# Altium footprint library 6002-3-0004 Rev01.PcbLib: 28 footprints (part 1 of 2)
Each footprint in its own frame and in the unit in brackets; x right, y up, seen from the top. Pads: shape width x height; smd on the part's side, far side on the other; paste and mask are expansions set on the pad; w line width, h text height; cw(c..) or ccw(c..) is an arc to the next point about the centre after c.
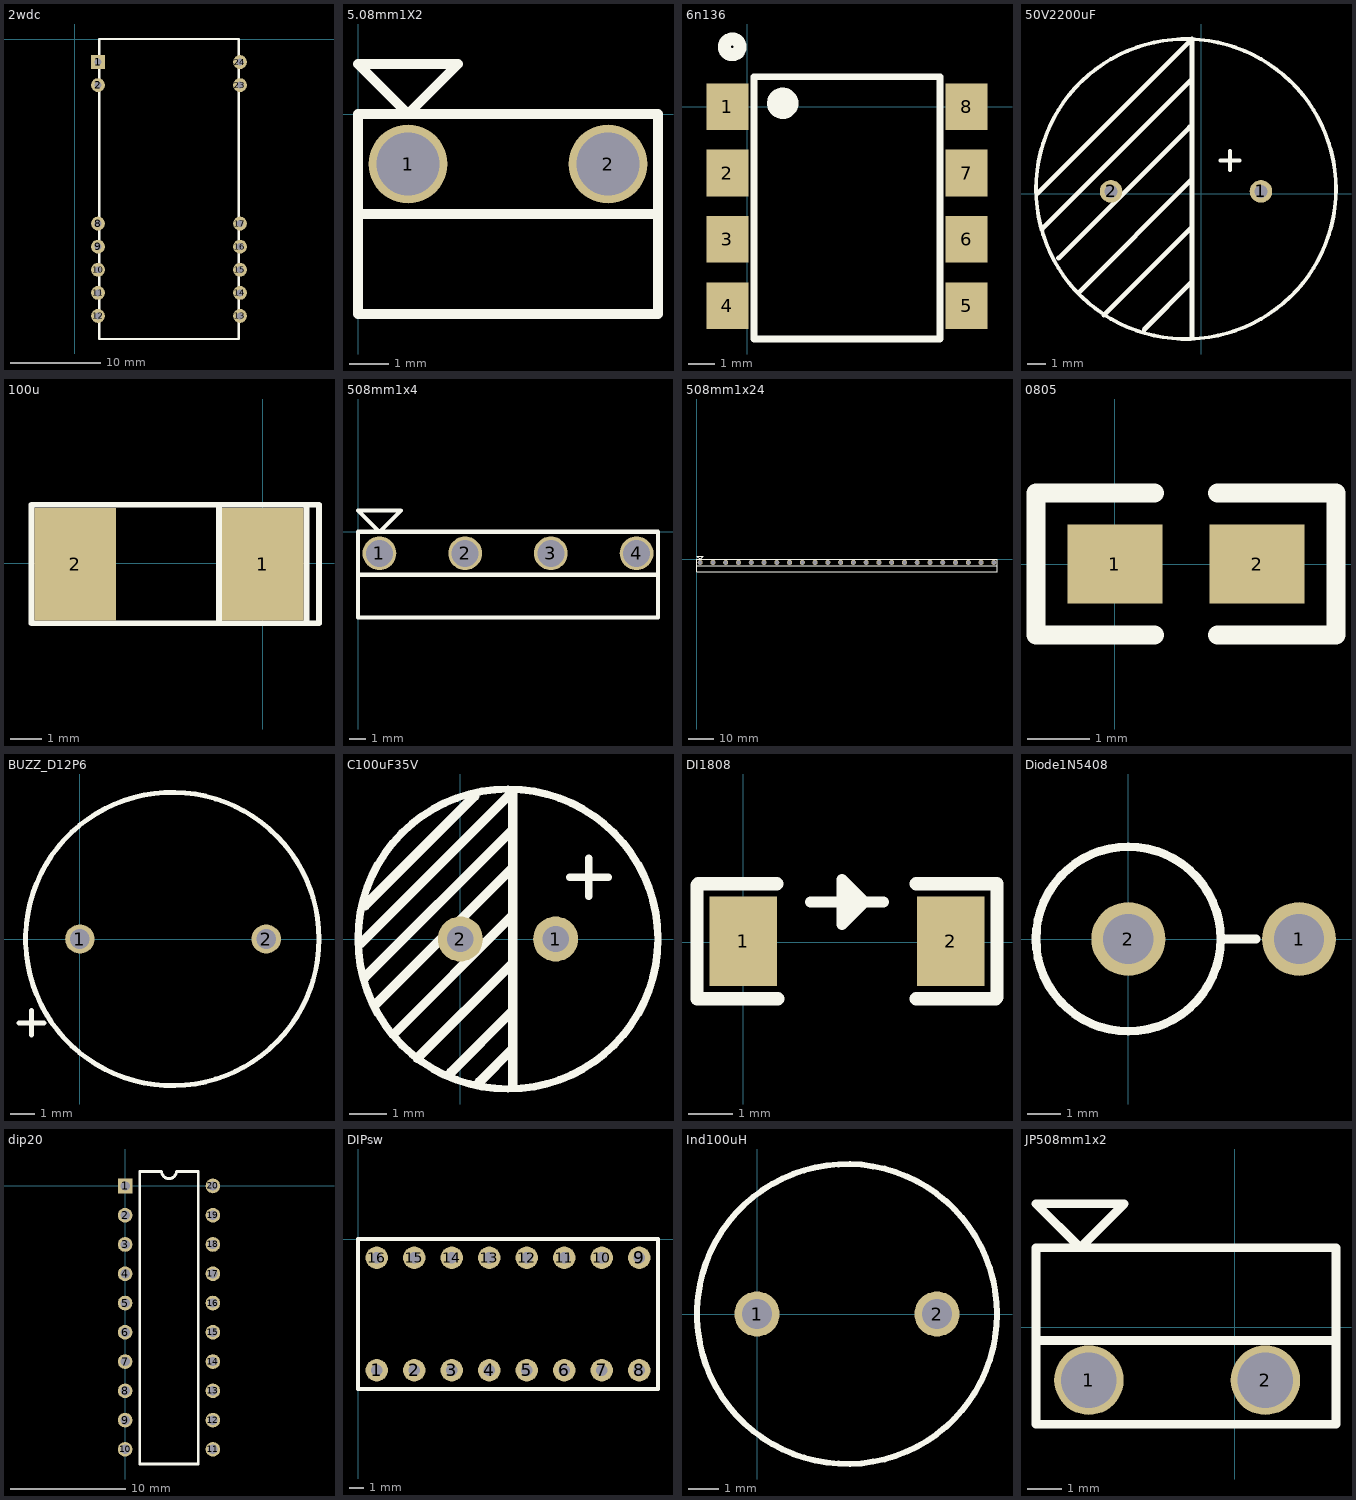
[diagram p0: the footprints below, top view; thin cyan lines are the x and y axes]

## 2wdc [mil]
pads (14):
  rect 60x60 hole 30: 1(100,-100)
  round 60 hole 30: 2(100,-200) 8(100,-800) 9(100,-900) 10(100,-1000) 11(100,-1100) 12(100,-1200) 13(715,-1200) 14(715,-1100) 15(715,-1000) 16(715,-900) 17(715,-800) 23(715,-200) 24(715,-100)
Top Overlay:
  lines w10: 105,-1300 105,0 710,0 710,-1300 105,-1300

## 5.08mm1X2 [mm]
pads (2):
  round 2 hole 1.6: 1(1.27,-1.27) 2(6.35,-1.27)
Top Overlay:
  lines w0.254: 0,-2.54 7.62,-2.54 ; 0,-5.08 7.62,-5.08 7.62,0 0,0 0,-5.08 ; 0,1.27 1.27,0 2.54,1.27 0,1.27

## 6n136 [mm]
pads (8):
  rect 1.6x1.78 smd: 1(-0.762,0) 2(-0.762,-2.54) 3(-0.762,-5.08) 4(-0.762,-7.62) 5(8.382,-7.62) 6(8.382,-5.08) 7(8.382,-2.54) 8(8.382,0)
Top Overlay:
  circle w0.5: c-0.581,2.286 r0.3
  circle w0.6: c1.351,0.127 r0.3
  lines w0.254: 0.254,-8.89 0.254,1.143 7.366,1.143 7.366,-8.89 0.254,-8.89

## 50V2200uF [mm]
pads (2):
  round 1.2 hole 0.7: 1(3.175,0.127) 2(-4.825,0.127)
Top Overlay:
  circle w0.2: c-0.825,0.254 r8
  lines w0.2: 1.016,1.778 2.032,1.778 ; 1.524,1.27 1.524,2.286
  lines w0.254: -8.763,0 -0.635,8.128 ; -8.509,-1.905 -0.508,6.096 ; -7.62,-3.429 -0.635,3.556 ; -6.477,-5.207 -0.508,0.762 ; -5.207,-6.477 -0.508,-1.778 ; -3.048,-7.239 -0.508,-4.699 ; -0.508,-7.62 -0.508,8.255

## 100u [mm]
pads (2):
  rect 2.6x3.6 smd: 1(-0.001,-0.02) 2(-6.001,-0.02)
Top Overlay:
  lines w0.178: -1.401,-1.92 -1.401,1.88 ; 1.399,-1.92 1.799,-1.92 1.799,1.88 1.399,1.88 ; 1.399,-1.92 1.399,1.88 ; 1.399,-1.92 -7.401,-1.92 -7.401,1.88 1.399,1.88

## 508mm1x4 [mm]
pads (4):
  round 2 hole 1.6: 1(1.27,-1.27) 2(6.35,-1.27) 3(11.43,-1.27) 4(16.51,-1.27)
Top Overlay:
  lines w0.254: 0,-2.54 17.78,-2.54 ; 0,-5.08 0,0 17.78,0 17.78,-5.08 0,-5.08 ; 0,1.27 2.54,1.27 1.27,0 0,1.27

## 508mm1x24 [mm]
pads (24):
  round 2 hole 1.6: 1(1.27,-1.27) 2(6.35,-1.27) 3(11.43,-1.27) 4(16.51,-1.27) 5(21.59,-1.27) 6(26.67,-1.27) 7(31.75,-1.27) 8(36.83,-1.27) 9(41.91,-1.27) 10(46.99,-1.27) 11(52.07,-1.27) 12(57.15,-1.27) 13(62.23,-1.27) 14(67.31,-1.27) 15(72.39,-1.27) 16(77.47,-1.27) 17(82.55,-1.27) 18(87.63,-1.27) 19(92.71,-1.27) 20(97.79,-1.27) 21(102.87,-1.27) 22(107.95,-1.27) 23(113.03,-1.27) 24(118.11,-1.27)
Top Overlay:
  lines w0.254: 0,-2.54 20.32,-2.54 40.64,-2.54 60.96,-2.54 81.28,-2.54 101.6,-2.54 119.38,-2.54 ; 0,-5.08 20.32,-5.08 40.64,-5.08 60.96,-5.08 81.28,-5.08 101.6,-5.08 119.38,-5.08 119.38,0 101.6,0 81.28,0 60.96,0 40.64,0 20.32,0 0,0 0,-5.08 ; 0,1.27 2.54,1.27 1.27,0 0,1.27

## 0805 [mil]
pads (2):
  rect 60x50 smd: 1(0,0) 2(90,0)
Top Overlay:
  lines w12: 25,-45 -50,-45 -50,45 25,45 ; 65,-45 140,-45 140,45 65,45

## BUZZ_D12P6 [mm]
pads (2):
  round 1.2 hole 0.8: 1(0,0) 2(7.62,0)
Top Overlay:
  circle w0.2: c3.779,0 r6
  lines w0.2: -2.491,-3.429 -1.475,-3.429 ; -1.983,-3.937 -1.983,-2.921

## C100uF35V [mm]
pads (2):
  round 1.2 hole 0.7: 1(2.54,0) 2(0,0)
Top Overlay:
  circle w0.2: c1.27,0 r4
  lines w0.2: 2.921,1.651 3.937,1.651 ; 3.429,1.143 3.429,2.159
  lines w0.254: -2.667,-0.127 1.397,3.937 1.397,-3.937 ; -2.54,-1.016 1.397,2.921 ; -2.54,0.889 0.381,3.81 ; -2.286,-1.778 1.397,1.905 ; -1.778,-2.54 1.397,0.635 ; -1.143,-3.175 1.397,-0.635 ; -0.254,-3.556 1.397,-1.905 ; 0.508,-3.81 1.397,-2.921

## DI1808 [mil]
pads (2):
  rect 60x80 smd: 1(0,1) 2(185,1)
Top Overlay:
  lines w10: 60,36 125,36 ; 88,24 100,36 ; 89,46 99,36 ; 97,36 97,37 ; 88,16 108,36 88,56 88,16
  lines w12: -41,51 -41,-50 31,-50 ; -40,52 30,52 ; 154,-50 225,-50 ; 154,52 226,52 ; 226,-49 226,51

## Diode1N5408 [mm]
pads (2):
  round 2.2 hole 1.5: 1(5.08,0) 2(0,0)
Top Overlay:
  circle w0.254: c0,0 r2.747
  lines w0.254: 2.747,0 3.81,0

## dip20 [mil]
pads (20):
  rect 50x50 hole 32: 1(0,0)
  round 50 hole 32: 2(0,-100) 3(0,-200) 4(0,-300) 5(0,-400) 6(0,-500) 7(0,-600) 8(0,-700) 9(0,-800) 10(0,-900) 11(300,-900) 12(300,-800) 13(300,-700) 14(300,-600) 15(300,-500) 16(300,-400) 17(300,-300) 18(300,-200) 19(300,-100) 20(300,0)
Top Overlay:
  lines w10: 50,-950 50,50 125,50 ccw(c150,50) 175,50 250,50 250,-950 50,-950

## DIPsw [mil]
pads (16):
  round 60 hole 30: 1(50,-350) 2(150,-350) 3(250,-350) 4(350,-350) 5(450,-350) 6(550,-350) 7(650,-350) 8(750,-350) 9(750,-50) 10(650,-50) 11(550,-50) 12(450,-50) 13(350,-50) 14(250,-50) 15(150,-50) 16(50,-50)
Top Overlay:
  lines w10: 0,-400 0,0 800,0 800,-400 0,-400

## Ind100uH [mm]
pads (2):
  round 1.5 hole 1: 1(0,0) 2(6,0)
Top Overlay:
  circle w0.2: c3,0 r5

## JP508mm1x2 [mm]
pads (2):
  round 2 hole 1.6: 1(-4.191,-1.524) 2(0.889,-1.524)
Top Overlay:
  lines w0.254: -5.715,-0.381 2.794,-0.381 ; -5.715,-2.794 2.921,-2.794 2.921,2.286 -5.715,2.286 -5.715,-2.794 ; -5.715,3.556 -3.175,3.556 -4.445,2.286 -5.715,3.556